# Altium schematic symbol library 1MOHM.SCHLIB: 1 symbol
Pins are listed as number, name and electrical type; pins without a type are passive.

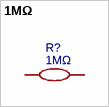
[diagram p0: symbol 1MΩ]

## 1MΩ
designator R?
Manufacturer: RALEC(旺诠); Manufacturer Part: RTT051004FTP; nameAlias: Value; Contributor: LCSC; Supplier: LCSC; Supplier Part: C103906; JLCPCB Part Class: Extended Part; spicePre: R; spiceSymbolName: RTT051004FTP
footprint R0805
pins: 1, 2